# Altium schematic symbol library Board.SchLib: 43 symbols
Pins are listed as number, name and electrical type; pins without a type are passive.

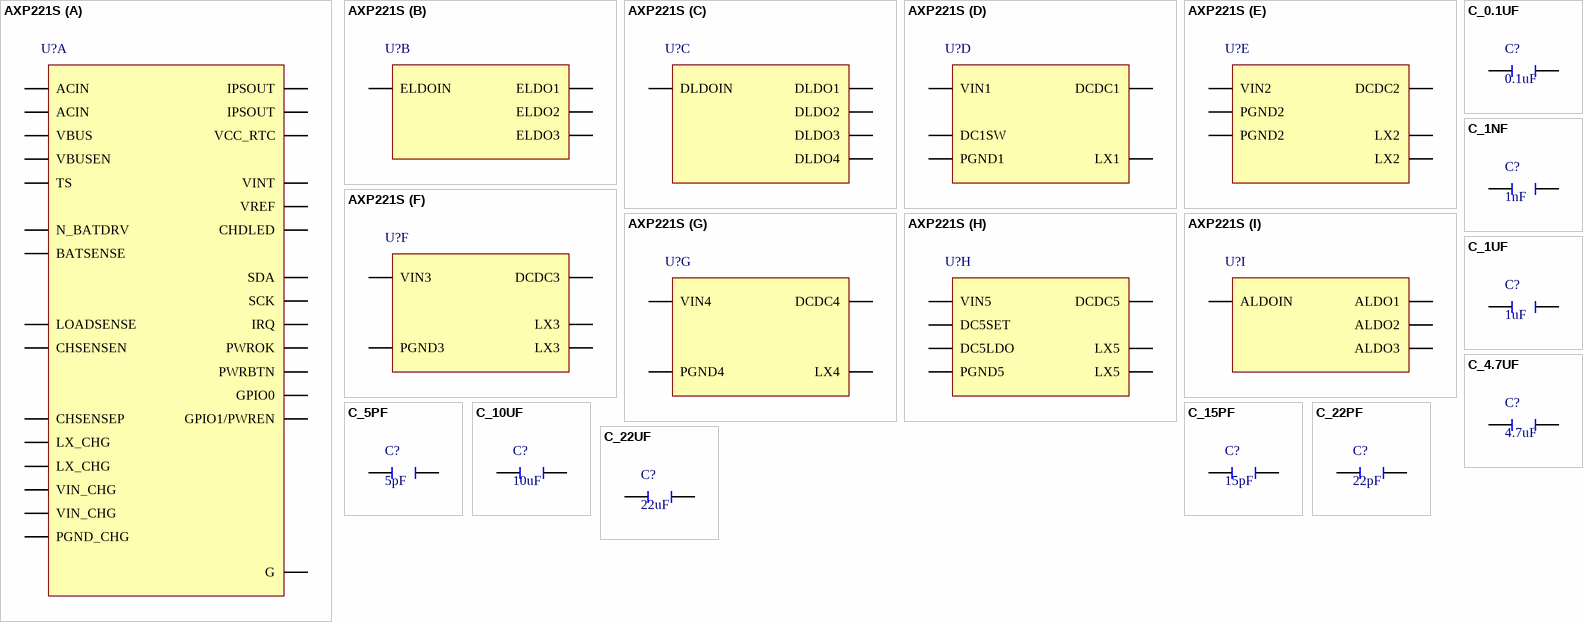
[diagram p0: symbols AXP221S to C_22UF]

## AXP221S
designator U?
footprint AXP221S
part A pins: 11 VBUSEN, 12 PWRBTN, 29 IRQ, 30 TS, 31 GPIO1/PWREN, 35 VREF, 37 GPIO0, 43 PWROK, 44 SCK, 45 SDA, 46 VCC_RTC, 47 VINT, 48 VBUS, 49 BATSENSE, 50 LOADSENSE, 51 N_BATDRV, 52 CHDLED, 53 IPSOUT, 54 IPSOUT, 55 ACIN, 56 ACIN, 57 CHSENSEP, 58 CHSENSEN, 59 PGND_CHG, 60 LX_CHG, 61 LX_CHG, 62 VIN_CHG, 63 VIN_CHG, 69 G
part B pins: 1 ELDOIN, 2 ELDO2, 3 ELDO3, 68 ELDO1
part C pins: 16 DLDO3, 17 DLDO2, 18 DLDOIN, 19 DLDO1, 20 DLDO4
part D pins: 13 VIN1, 14 LX1, 15 PGND1, 21 DCDC1, 22 DC1SW
part E pins: 23 VIN2, 24 LX2, 25 LX2, 26 PGND2, 27 PGND2, 28 DCDC2
part F pins: 38 DCDC3, 39 VIN3, 40 LX3, 41 LX3, 42 PGND3
part G pins: 64 VIN4, 65 LX4, 66 PGND4, 67 DCDC4
part H pins: 4 DC5LDO, 5 DCDC5, 6 PGND5, 7 LX5, 8 LX5, 9 VIN5, 10 DC5SET
part I pins: 32 ALDO1, 33 ALDOIN, 34 ALDO2, 36 ALDO3

## C_0.1UF
designator C?, comment 0.1uF
footprint C0402
footprint C0603
footprint C0805
pins: 1 17, 2 18

## C_1NF
designator C?, comment 1nF
footprint C0402
footprint C0603
footprint C0805
pins: 1 17, 2 18

## C_1UF
designator C?, comment 1uF
footprint C0402
footprint C0603
footprint C0805
pins: 1 17, 2 18

## C_4.7UF
designator C?, comment 4.7uF
footprint C0402
footprint C0603
footprint C0805
pins: 1 17, 2 18

## C_5PF
designator C?, comment 5pF
footprint C0402
footprint C0603
footprint C0805
pins: 1 17, 2 18

## C_10UF
designator C?, comment 10uF
footprint C0402
footprint C0603
footprint C0805
pins: 1 17, 2 18

## C_15PF
designator C?, comment 15pF
footprint C0402
footprint C0603
footprint C0805
pins: 1 17, 2 18

## C_22PF
designator C?, comment 22pF
footprint C0402
footprint C0603
footprint C0805
pins: 1 17, 2 18

## C_22UF
designator C?, comment 22uF
footprint C0402
footprint C0603
footprint C0805
pins: 1 17, 2 18

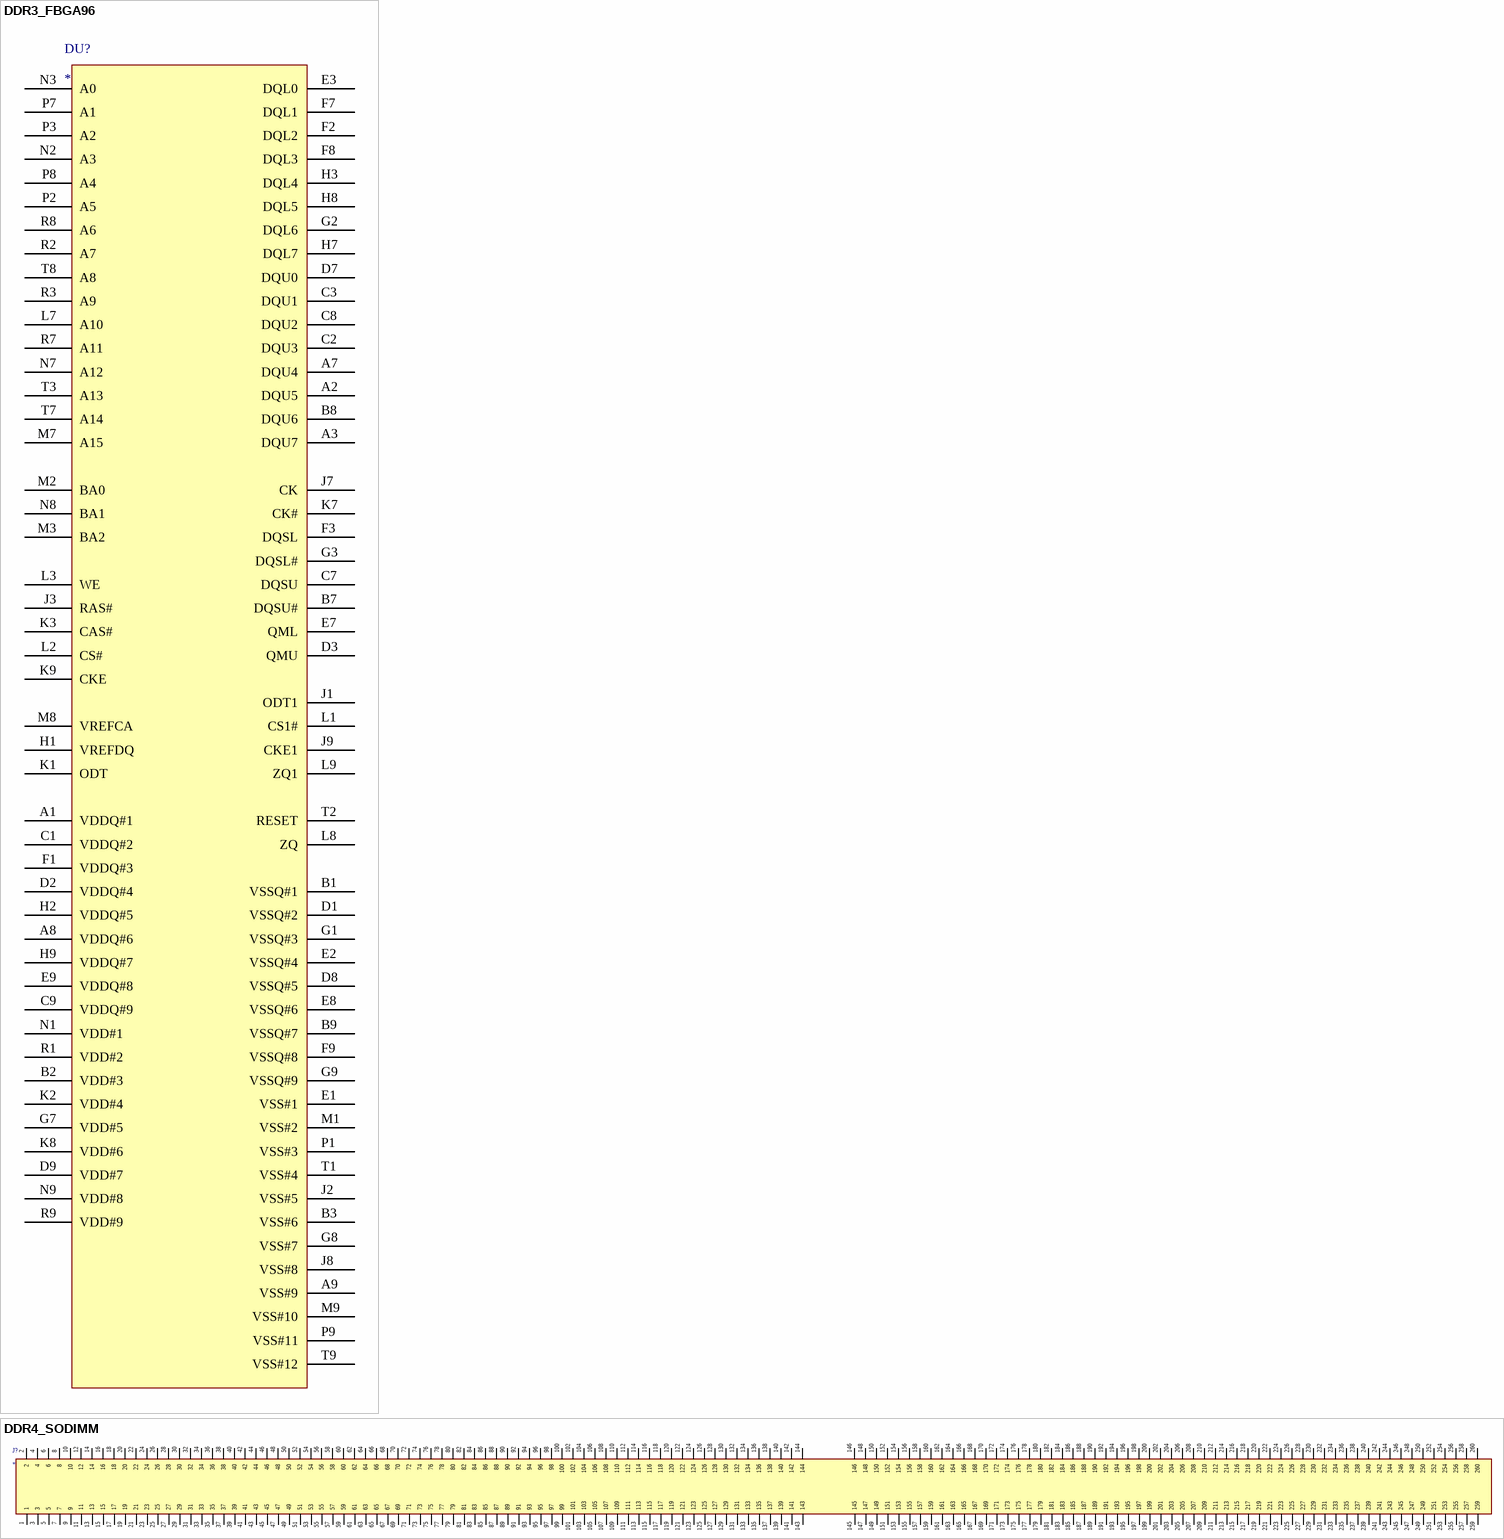
[diagram p1: symbols DDR3_FBGA96 to DDR4_SODIMM]

## DDR3_FBGA96
designator DU?
footprint DDR3_FBGA96
pins: A1 VDDQ#1, A2 DQU5, A3 DQU7, A7 DQU4, A8 VDDQ#6, A9 VSS#9, B1 VSSQ#1, B2 VDD#3, B3 VSS#6, B7 DQSU#, B8 DQU6, B9 VSSQ#7, C1 VDDQ#2, C2 DQU3, C3 DQU1, C7 DQSU, C8 DQU2, C9 VDDQ#9, D1 VSSQ#2, D2 VDDQ#4, D3 QMU, D7 DQU0, D8 VSSQ#5, D9 VDD#7, E1 VSS#1, E2 VSSQ#4, E3 DQL0, E7 QML, E8 VSSQ#6, E9 VDDQ#8, F1 VDDQ#3, F2 DQL2, F3 DQSL, F7 DQL1, F8 DQL3, F9 VSSQ#8, G1 VSSQ#3, G2 DQL6, G3 DQSL#, G7 VDD#5, G8 VSS#7, G9 VSSQ#9, H1 VREFDQ, H2 VDDQ#5, H3 DQL4, H7 DQL7, H8 DQL5, H9 VDDQ#7, J1 ODT1, J2 VSS#5, J3 RAS#, J7 CK, J8 VSS#8, J9 CKE1, K1 ODT, K2 VDD#4, K3 CAS#, K7 CK#, K8 VDD#6, K9 CKE, L1 CS1#, L2 CS#, L3 WE, L7 A10, L8 ZQ, L9 ZQ1, M1 VSS#2, M2 BA0, M3 BA2, M7 A15, M8 VREFCA, M9 VSS#10, N1 VDD#1, N2 A3, N3 A0, N7 A12, N8 BA1, N9 VDD#8, P1 VSS#3, P2 A5, P3 A2, P7 A1, P8 A4, P9 VSS#11, R1 VDD#2, R2 A7, R3 A9, R7 A11, R8 A6, R9 VDD#9, T1 VSS#4, T2 RESET, T3 A13, T7 A14, T8 A8, T9 VSS#12

## DDR4_SODIMM
designator J?
footprint DDR4_SODIMM
pins: 1, 2, 3, 4, 5, 6, 7, 8, 9, 10, 11, 12, 13, 14, 15, 16, 17, 18, 19, 20, 21, 22, 23, 24, 25, 26, 27, 28, 29, 30, 31, 32, 33, 34, 35, 36, 37, 38, 39, 40, 41, 42, 43, 44, 45, 46, 47, 48, 49, 50, 51, 52, 53, 54, 55, 56, 57, 58, 59, 60, 61, 62, 63, 64, 65, 66, 67, 68, 69, 70, 71, 72, 73, 74, 75, 76, 77, 78, 79, 80, 81, 82, 83, 84, 85, 86, 87, 88, 89, 90, 91, 92, 93, 94, 95, 96, 97, 98, 99, 100, 101, 102, 103, 104, 105, 106, 107, 108, 109, 110, 111, 112, 113, 114, 115, 116, 117, 118, 119, 120, 121, 122, 123, 124, 125, 126, 127, 128, 129, 130, 131, 132, 133, 134, 135, 136, 137, 138, 139, 140, 141, 142, 143, 144, 145, 146, 147, 148, 149, 150, 151, 152, 153, 154, 155, 156, 157, 158, 159, 160, 161, 162, 163, 164, 165, 166, 167, 168, 169, 170, 171, 172, 173, 174, 175, 176, 177, 178, 179, 180, 181, 182, 183, 184, 185, 186, 187, 188, 189, 190, 191, 192, 193, 194, 195, 196, 197, 198, 199, 200, 201, 202, 203, 204, 205, 206, 207, 208, 209, 210, 211, 212, 213, 214, 215, 216, 217, 218, 219, 220, 221, 222, 223, 224, 225, 226, 227, 228, 229, 230, 231, 232, 233, 234, 235, 236, 237, 238, 239, 240, 241, 242, 243, 244, 245, 246, 247, 248, 249, 250, 251, 252, 253, 254, 255, 256, 257, 258, 259, 260

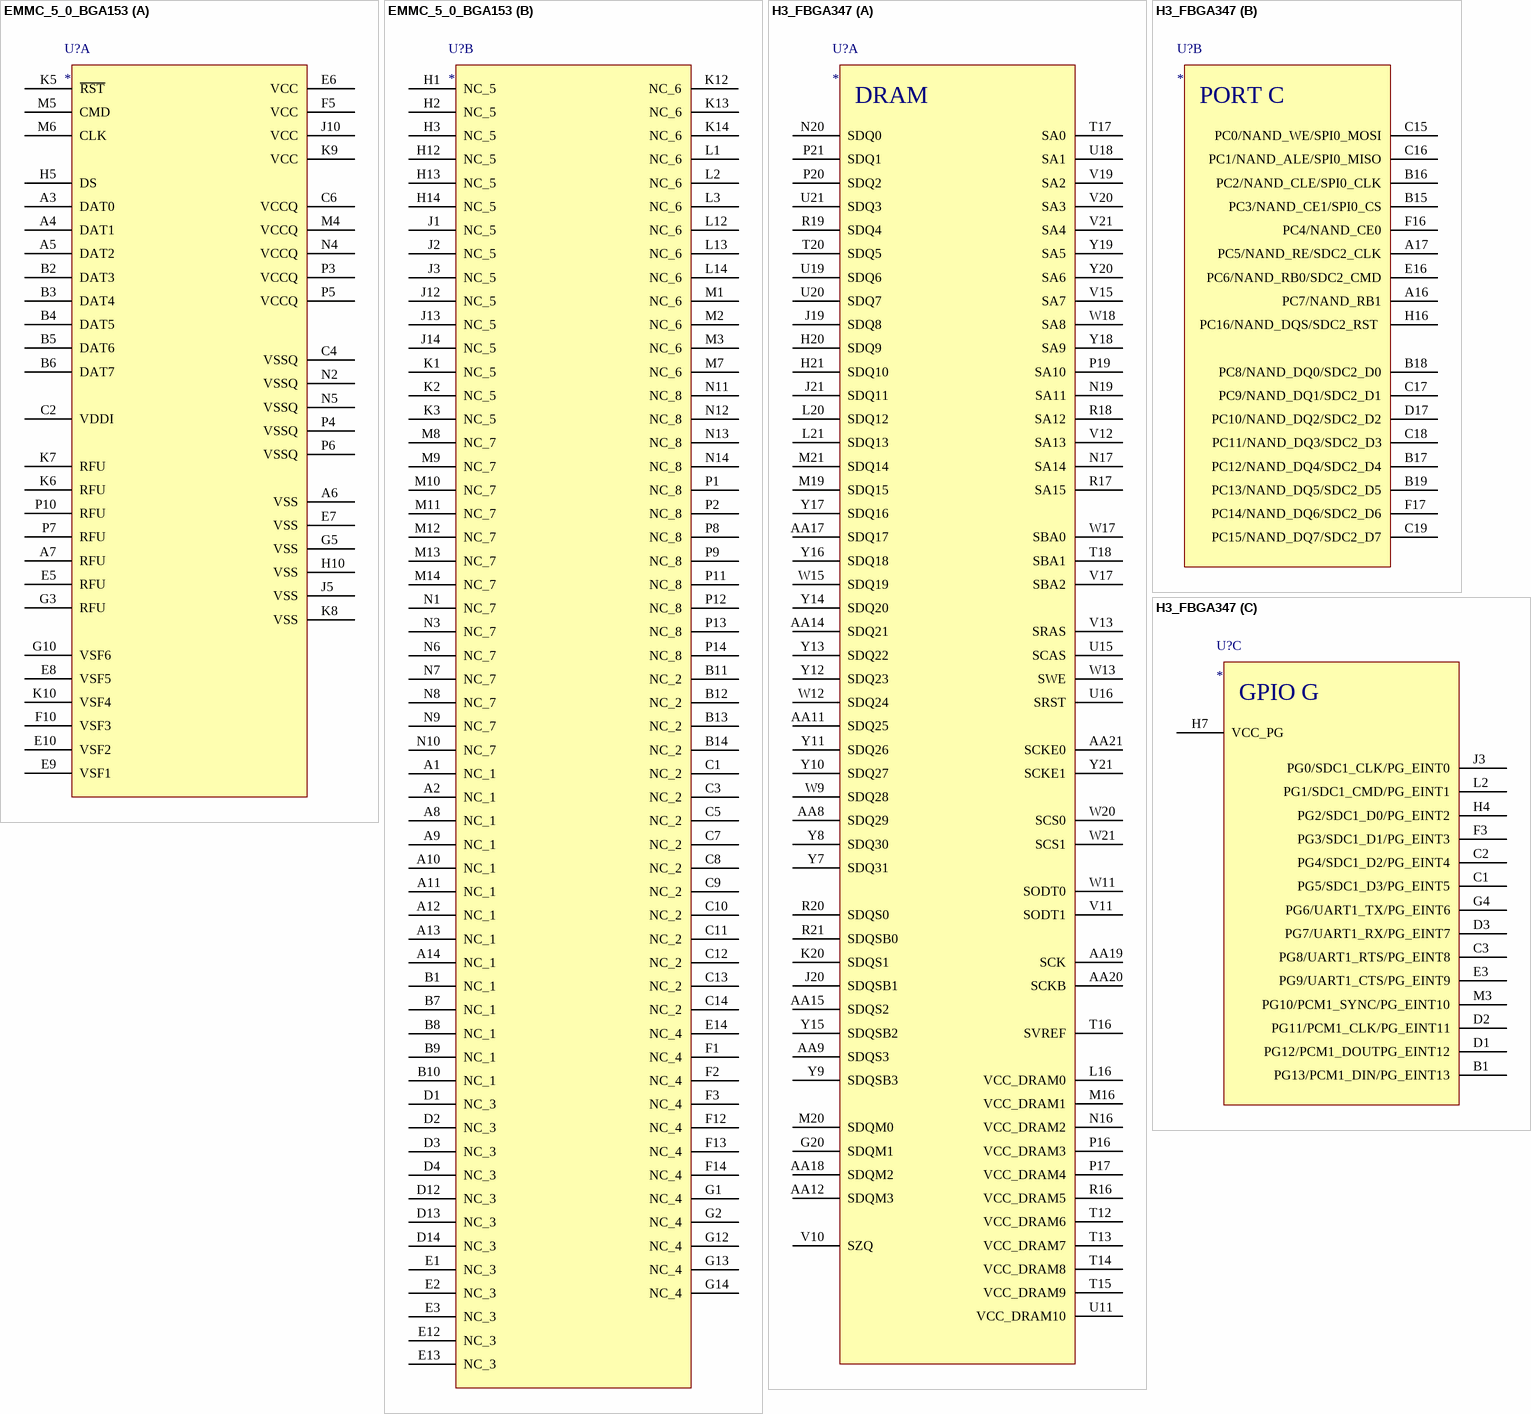
[diagram p2: symbols EMMC_5_0_BGA153 to H3_FBGA347]

## EMMC_5_0_BGA153
designator U?
footprint EMMC_BGA153
part A pins: A3 DAT0, A4 DAT1, A5 DAT2, A6 VSS, A7 RFU, B2 DAT3, B3 DAT4, B4 DAT5, B5 DAT6, B6 DAT7, C2 VDDI, C4 VSSQ, C6 VCCQ, E5 RFU, E6 VCC, E7 VSS, E8 VSF5, E9 VSF1, E10 VSF2, F5 VCC, F10 VSF3, G3 RFU, G5 VSS, G10 VSF6, H5 DS, H10 VSS, J5 VSS, J10 VCC, K5 ~{RST}, K6 RFU, K7 RFU, K8 VSS, K9 VCC, K10 VSF4, M4 VCCQ, M5 CMD, M6 CLK, N2 VSSQ, N4 VCCQ, N5 VSSQ, P3 VCCQ, P4 VSSQ, P5 VCCQ, P6 VSSQ, P7 RFU, P10 RFU
part B pins: A1 NC_1, A2 NC_1, A8 NC_1, A9 NC_1, A10 NC_1, A11 NC_1, A12 NC_1, A13 NC_1, A14 NC_1, B1 NC_1, B7 NC_1, B8 NC_1, B9 NC_1, B10 NC_1, B11 NC_2, B12 NC_2, B13 NC_2, B14 NC_2, C1 NC_2, C3 NC_2, C5 NC_2, C7 NC_2, C8 NC_2, C9 NC_2, C10 NC_2, C11 NC_2, C12 NC_2, C13 NC_2, C14 NC_2, D1 NC_3, D2 NC_3, D3 NC_3, D4 NC_3, D12 NC_3, D13 NC_3, D14 NC_3, E1 NC_3, E2 NC_3, E3 NC_3, E12 NC_3, E13 NC_3, E14 NC_4, F1 NC_4, F2 NC_4, F3 NC_4, F12 NC_4, F13 NC_4, F14 NC_4, G1 NC_4, G2 NC_4, G12 NC_4, G13 NC_4, G14 NC_4, H1 NC_5, H2 NC_5, H3 NC_5, H12 NC_5, H13 NC_5, H14 NC_5, J1 NC_5, J2 NC_5, J3 NC_5, J12 NC_5, J13 NC_5, J14 NC_5, K1 NC_5, K2 NC_5, K3 NC_5, K12 NC_6, K13 NC_6, K14 NC_6, L1 NC_6, L2 NC_6, L3 NC_6, L12 NC_6, L13 NC_6, L14 NC_6, M1 NC_6, M2 NC_6, M3 NC_6, M7 NC_6, M8 NC_7, M9 NC_7, M10 NC_7, M11 NC_7, M12 NC_7, M13 NC_7, M14 NC_7, N1 NC_7, N3 NC_7, N6 NC_7, N7 NC_7, N8 NC_7, N9 NC_7, N10 NC_7, N11 NC_8, N12 NC_8, N13 NC_8, N14 NC_8, P1 NC_8, P2 NC_8, P8 NC_8, P9 NC_8, P11 NC_8, P12 NC_8, P13 NC_8, P14 NC_8

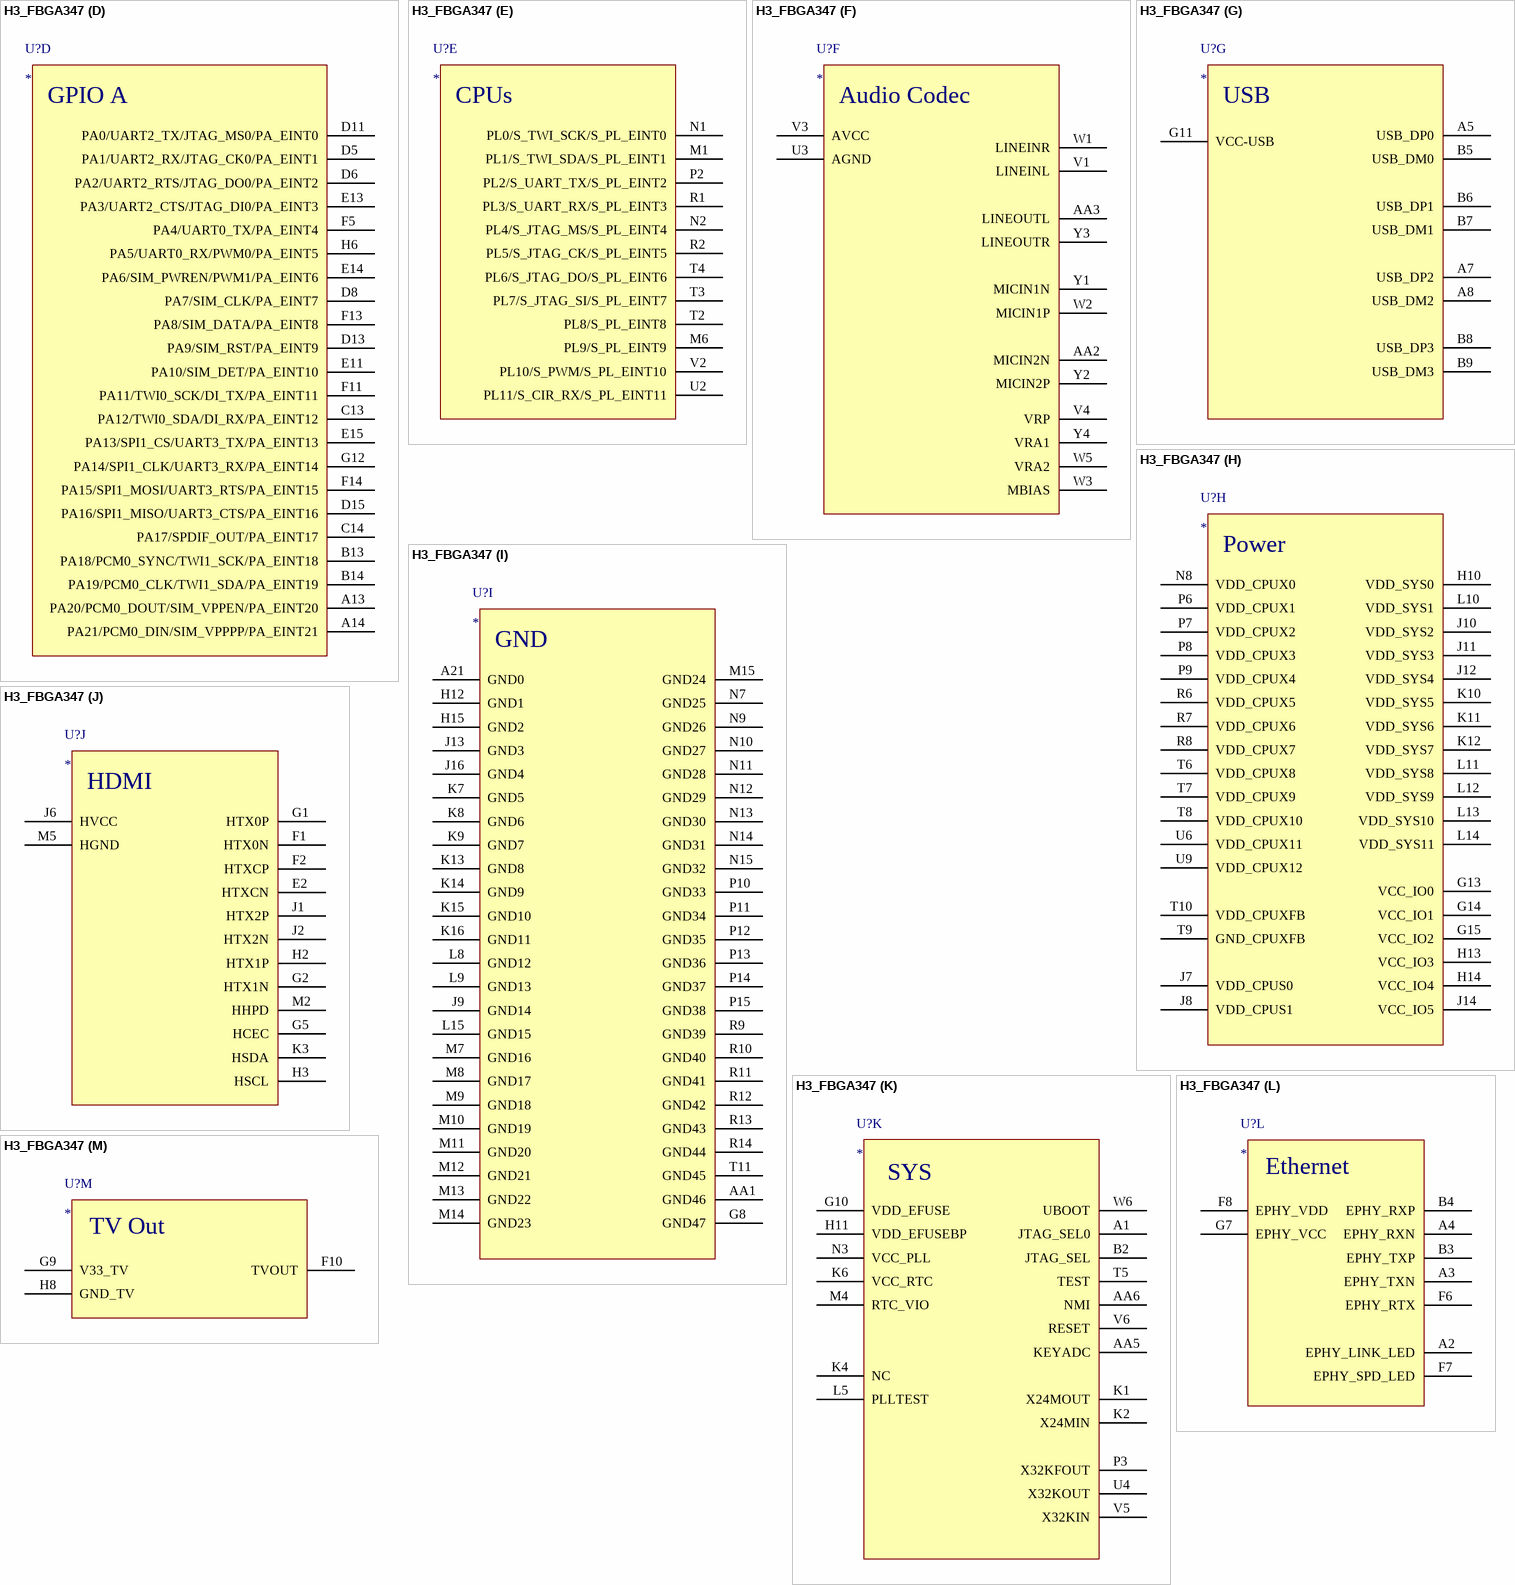
[diagram p3: symbol H3_FBGA347]

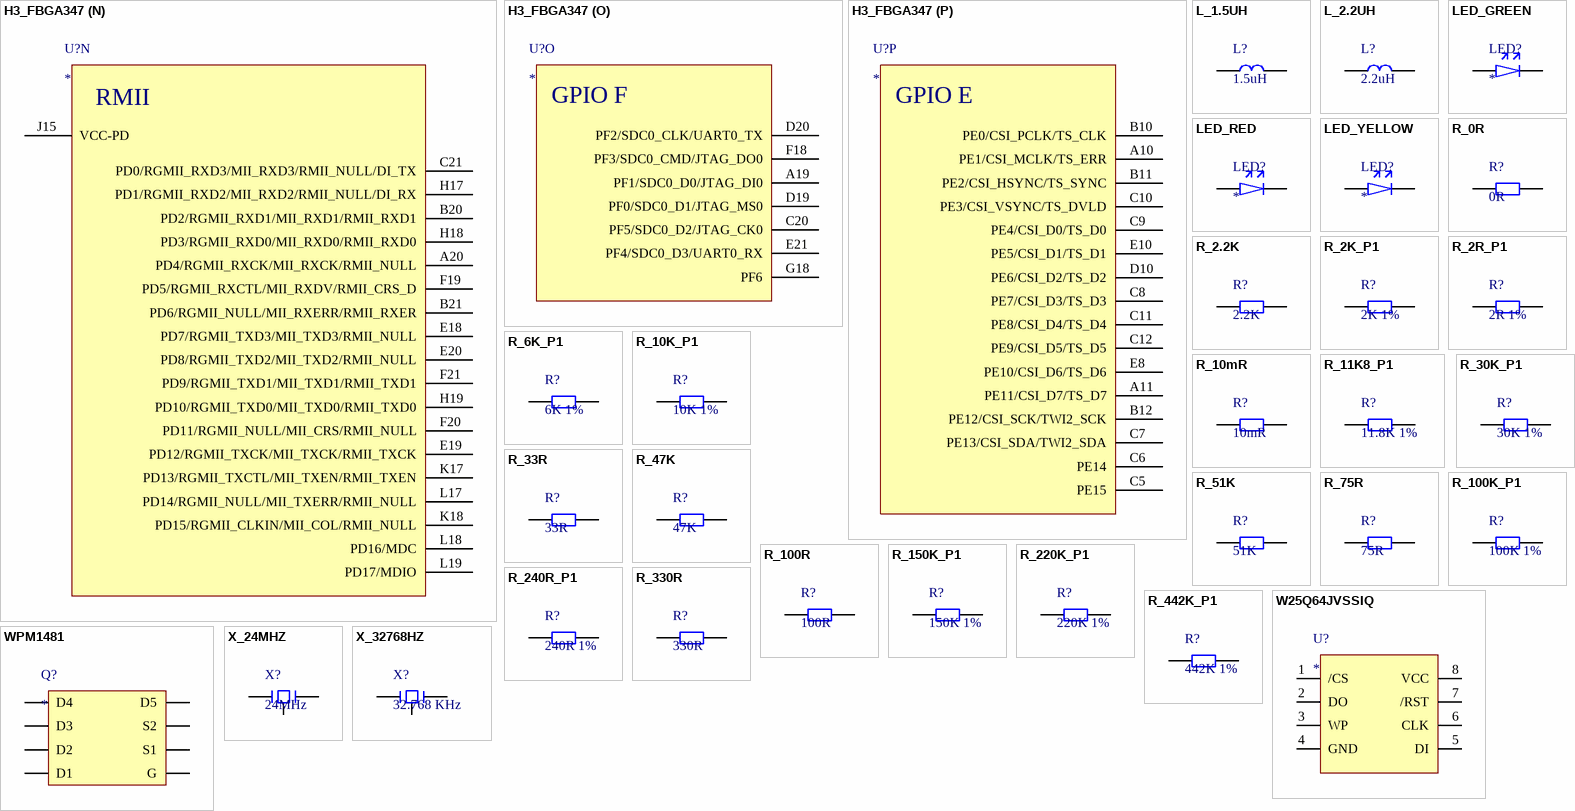
[diagram p4: symbols H3_FBGA347 to X_32768HZ]

## H3_FBGA347
designator U?
footprint H3_FBGA327
part A pins: AA8 SDQ29, AA9 SDQS3, AA11 SDQ25, AA12 SDQM3, AA14 SDQ21, AA15 SDQS2, AA17 SDQ17, AA18 SDQM2, AA19 SCK, AA20 SCKB, AA21 SCKE0, G20 SDQM1, H20 SDQ9, H21 SDQ10, J19 SDQ8, J20 SDQSB1, J21 SDQ11, K20 SDQS1, L16 VCC_DRAM0, L20 SDQ12, L21 SDQ13, M16 VCC_DRAM1, M19 SDQ15, M20 SDQM0, M21 SDQ14, N16 VCC_DRAM2, N17 SA14, N19 SA11, N20 SDQ0, P16 VCC_DRAM3, P17 VCC_DRAM4, P19 SA10, P20 SDQ2, P21 SDQ1, R16 VCC_DRAM5, R17 SA15, R18 SA12, R19 SDQ4, R20 SDQS0, R21 SDQSB0, T12 VCC_DRAM6, T13 VCC_DRAM7, T14 VCC_DRAM8, T15 VCC_DRAM9, T16 SVREF, T17 SA0, T18 SBA1, T20 SDQ5, U11 VCC_DRAM10, U15 SCAS, U16 SRST, U18 SA1, U19 SDQ6, U20 SDQ7, U21 SDQ3, V10 SZQ, V11 SODT1, V12 SA13, V13 SRAS, V15 SA7, V17 SBA2, V19 SA2, V20 SA3, V21 SA4, W9 SDQ28, W11 SODT0, W12 SDQ24, W13 SWE, W15 SDQ19, W17 SBA0, W18 SA8, W20 SCS0, W21 SCS1, Y7 SDQ31, Y8 SDQ30, Y9 SDQSB3, Y10 SDQ27, Y11 SDQ26, Y12 SDQ23, Y13 SDQ22, Y14 SDQ20, Y15 SDQSB2, Y16 SDQ18, Y17 SDQ16, Y18 SA9, Y19 SA5, Y20 SA6, Y21 SCKE1
part B pins: A16 PC7/NAND_RB1, A17 PC5/NAND_RE/SDC2_CLK, B15 PC3/NAND_CE1/SPI0_CS, B16 PC2/NAND_CLE/SPI0_CLK, B17 PC12/NAND_DQ4/SDC2_D4, B18 PC8/NAND_DQ0/SDC2_D0, B19 PC13/NAND_DQ5/SDC2_D5, C15 PC0/NAND_WE/SPI0_MOSI, C16 PC1/NAND_ALE/SPI0_MISO, C17 PC9/NAND_DQ1/SDC2_D1, C18 PC11/NAND_DQ3/SDC2_D3, C19 PC15/NAND_DQ7/SDC2_D7, D17 PC10/NAND_DQ2/SDC2_D2, E16 PC6/NAND_RB0/SDC2_CMD, F16 PC4/NAND_CE0, F17 PC14/NAND_DQ6/SDC2_D6, H16 PC16/NAND_DQS/SDC2_RST 
part C pins: B1 PG13/PCM1_DIN/PG_EINT13, C1 PG5/SDC1_D3/PG_EINT5, C2 PG4/SDC1_D2/PG_EINT4, C3 PG8/UART1_RTS/PG_EINT8, D1 PG12/PCM1_DOUTPG_EINT12, D2 PG11/PCM1_CLK/PG_EINT11, D3 PG7/UART1_RX/PG_EINT7, E3 PG9/UART1_CTS/PG_EINT9, F3 PG3/SDC1_D1/PG_EINT3, G4 PG6/UART1_TX/PG_EINT6, H4 PG2/SDC1_D0/PG_EINT2, H7 VCC_PG, J3 PG0/SDC1_CLK/PG_EINT0, L2 PG1/SDC1_CMD/PG_EINT1, M3 PG10/PCM1_SYNC/PG_EINT10
part D pins: A13 PA20/PCM0_DOUT/SIM_VPPEN/PA_EINT20, A14 PA21/PCM0_DIN/SIM_VPPPP/PA_EINT21, B13 PA18/PCM0_SYNC/TWI1_SCK/PA_EINT18, B14 PA19/PCM0_CLK/TWI1_SDA/PA_EINT19, C13 PA12/TWI0_SDA/DI_RX/PA_EINT12, C14 PA17/SPDIF_OUT/PA_EINT17, D5 PA1/UART2_RX/JTAG_CK0/PA_EINT1, D6 PA2/UART2_RTS/JTAG_DO0/PA_EINT2, D8 PA7/SIM_CLK/PA_EINT7, D11 PA0/UART2_TX/JTAG_MS0/PA_EINT0, D13 PA9/SIM_RST/PA_EINT9, D15 PA16/SPI1_MISO/UART3_CTS/PA_EINT16, E11 PA10/SIM_DET/PA_EINT10, E13 PA3/UART2_CTS/JTAG_DI0/PA_EINT3, E14 PA6/SIM_PWREN/PWM1/PA_EINT6, E15 PA13/SPI1_CS/UART3_TX/PA_EINT13, F5 PA4/UART0_TX/PA_EINT4, F11 PA11/TWI0_SCK/DI_TX/PA_EINT11, F13 PA8/SIM_DATA/PA_EINT8, F14 PA15/SPI1_MOSI/UART3_RTS/PA_EINT15, G12 PA14/SPI1_CLK/UART3_RX/PA_EINT14, H6 PA5/UART0_RX/PWM0/PA_EINT5
part E pins: M1 PL1/S_TWI_SDA/S_PL_EINT1, M6 PL9/S_PL_EINT9, N1 PL0/S_TWI_SCK/S_PL_EINT0, N2 PL4/S_JTAG_MS/S_PL_EINT4, P2 PL2/S_UART_TX/S_PL_EINT2, R1 PL3/S_UART_RX/S_PL_EINT3, R2 PL5/S_JTAG_CK/S_PL_EINT5, T2 PL8/S_PL_EINT8, T3 PL7/S_JTAG_SI/S_PL_EINT7, T4 PL6/S_JTAG_DO/S_PL_EINT6, U2 PL11/S_CIR_RX/S_PL_EINT11, V2 PL10/S_PWM/S_PL_EINT10
part F pins: AA2 MICIN2N, AA3 LINEOUTL, U3 AGND, V1 LINEINL, V3 AVCC, V4 VRP, W1 LINEINR, W2 MICIN1P, W3 MBIAS, W5 VRA2, Y1 MICIN1N, Y2 MICIN2P, Y3 LINEOUTR, Y4 VRA1
part G pins: A5 USB_DP0, A7 USB_DP2, A8 USB_DM2, B5 USB_DM0, B6 USB_DP1, B7 USB_DM1, B8 USB_DP3, B9 USB_DM3, G11 VCC-USB
part H pins: G13 VCC_IO0, G14 VCC_IO1, G15 VCC_IO2, H10 VDD_SYS0, H13 VCC_IO3, H14 VCC_IO4, J7 VDD_CPUS0, J8 VDD_CPUS1, J10 VDD_SYS2, J11 VDD_SYS3, J12 VDD_SYS4, J14 VCC_IO5, K10 VDD_SYS5, K11 VDD_SYS6, K12 VDD_SYS7, L10 VDD_SYS1, L11 VDD_SYS8, L12 VDD_SYS9, L13 VDD_SYS10, L14 VDD_SYS11, N8 VDD_CPUX0, P6 VDD_CPUX1, P7 VDD_CPUX2, P8 VDD_CPUX3, P9 VDD_CPUX4, R6 VDD_CPUX5, R7 VDD_CPUX6, R8 VDD_CPUX7, T6 VDD_CPUX8, T7 VDD_CPUX9, T8 VDD_CPUX10, T9 GND_CPUXFB, T10 VDD_CPUXFB, U6 VDD_CPUX11, U9 VDD_CPUX12
part I pins: A21 GND0, AA1 GND46, G8 GND47, H12 GND1, H15 GND2, J9 GND14, J13 GND3, J16 GND4, K7 GND5, K8 GND6, K9 GND7, K13 GND8, K14 GND9, K15 GND10, K16 GND11, L8 GND12, L9 GND13, L15 GND15, M7 GND16, M8 GND17, M9 GND18, M10 GND19, M11 GND20, M12 GND21, M13 GND22, M14 GND23, M15 GND24, N7 GND25, N9 GND26, N10 GND27, N11 GND28, N12 GND29, N13 GND30, N14 GND31, N15 GND32, P10 GND33, P11 GND34, P12 GND35, P13 GND36, P14 GND37, P15 GND38, R9 GND39, R10 GND40, R11 GND41, R12 GND42, R13 GND43, R14 GND44, T11 GND45
part J pins: E2 HTXCN, F1 HTX0N, F2 HTXCP, G1 HTX0P, G2 HTX1N, G5 HCEC, H2 HTX1P, H3 HSCL, J1 HTX2P, J2 HTX2N, J6 HVCC, K3 HSDA, M2 HHPD, M5 HGND
part K pins: A1 JTAG_SEL0, AA5 KEYADC, AA6 NMI, B2 JTAG_SEL, G10 VDD_EFUSE, H11 VDD_EFUSEBP, K1 X24MOUT, K2 X24MIN, K4 NC, K6 VCC_RTC, L5 PLLTEST, M4 RTC_VIO, N3 VCC_PLL, P3 X32KFOUT, T5 TEST, U4 X32KOUT, V5 X32KIN, V6 RESET, W6 UBOOT
part L pins: A2 EPHY_LINK_LED, A3 EPHY_TXN, A4 EPHY_RXN, B3 EPHY_TXP, B4 EPHY_RXP, F6 EPHY_RTX, F7 EPHY_SPD_LED, F8 EPHY_VDD, G7 EPHY_VCC
part M pins: F10 TVOUT, G9 V33_TV, H8 GND_TV
part N pins: A20 PD4/RGMII_RXCK/MII_RXCK/RMII_NULL, B20 PD2/RGMII_RXD1/MII_RXD1/RMII_RXD1, B21 PD6/RGMII_NULL/MII_RXERR/RMII_RXER, C21 PD0/RGMII_RXD3/MII_RXD3/RMII_NULL/DI_TX, E18 PD7/RGMII_TXD3/MII_TXD3/RMII_NULL, E19 PD12/RGMII_TXCK/MII_TXCK/RMII_TXCK, E20 PD8/RGMII_TXD2/MII_TXD2/RMII_NULL, F19 PD5/RGMII_RXCTL/MII_RXDV/RMII_CRS_D, F20 PD11/RGMII_NULL/MII_CRS/RMII_NULL, F21 PD9/RGMII_TXD1/MII_TXD1/RMII_TXD1, H17 PD1/RGMII_RXD2/MII_RXD2/RMII_NULL/DI_RX, H18 PD3/RGMII_RXD0/MII_RXD0/RMII_RXD0, H19 PD10/RGMII_TXD0/MII_TXD0/RMII_TXD0, J15 VCC-PD, K17 PD13/RGMII_TXCTL/MII_TXEN/RMII_TXEN, K18 PD15/RGMII_CLKIN/MII_COL/RMII_NULL, L17 PD14/RGMII_NULL/MII_TXERR/RMII_NULL, L18 PD16/MDC, L19 PD17/MDIO
part O pins: A19 PF1/SDC0_D0/JTAG_DI0, C20 PF5/SDC0_D2/JTAG_CK0, D19 PF0/SDC0_D1/JTAG_MS0, D20 PF2/SDC0_CLK/UART0_TX, E21 PF4/SDC0_D3/UART0_RX, F18 PF3/SDC0_CMD/JTAG_DO0, G18 PF6
part P pins: A10 PE1/CSI_MCLK/TS_ERR, A11 PE11/CSI_D7/TS_D7, B10 PE0/CSI_PCLK/TS_CLK, B11 PE2/CSI_HSYNC/TS_SYNC, B12 PE12/CSI_SCK/TWI2_SCK, C5 PE15, C6 PE14, C7 PE13/CSI_SDA/TWI2_SDA, C8 PE7/CSI_D3/TS_D3, C9 PE4/CSI_D0/TS_D0, C10 PE3/CSI_VSYNC/TS_DVLD, C11 PE8/CSI_D4/TS_D4, C12 PE9/CSI_D5/TS_D5, D10 PE6/CSI_D2/TS_D2, E8 PE10/CSI_D6/TS_D6, E10 PE5/CSI_D1/TS_D1
part A text: DRAM
part B text: PORT C
part C text: GPIO G
part D text: GPIO A
part E text: CPUs
part F text: Audio Codec
part G text: USB
part H text: Power
part I text: GND
part J text: HDMI
part K text: SYS
part L text: Ethernet
part M text: TV Out
part N text: RMII
part O text: GPIO F
part P text: GPIO E

## L_1.5UH
designator L?, comment 1.5uH
footprint L0603
footprint L2520
pins: 1 17, 2 18

## L_2.2UH
designator L?, comment 2.2uH
footprint L0603
footprint L2520
pins: 1 17, 2 18

## LED_GREEN
designator LED?
footprint LED0603_GREEN
pins: 1, 2

## LED_RED
designator LED?
footprint LED0603_RED
pins: 1, 2

## LED_YELLOW
designator LED?
footprint LED0603_YELLOW
pins: 1, 2

## R_0R
designator R?, comment 0R
footprint R0402
footprint R0603
pins: 1 17, 2 18

## R_2.2K
designator R?, comment 2.2K
footprint R0402
footprint R0603
pins: 1 17, 2 18

## R_2K_P1
designator R?, comment 2K 1%
footprint R0402
footprint R0603
pins: 1 17, 2 18

## R_2R_P1
designator R?, comment 2R 1%
footprint R0402
footprint R0603
pins: 1 17, 2 18

## R_6K_P1
designator R?, comment 6K 1%
footprint R0402
footprint R0603
pins: 1 17, 2 18

## R_10K_P1
designator R?, comment 10K 1%
footprint R0402
footprint R0603
pins: 1 17, 2 18

## R_10mR
designator R?, comment 10mR
footprint R0402
footprint R0603
footprint R0805
pins: 1 17, 2 18

## R_11K8_P1
designator R?, comment 11.8K 1%
footprint R0402
footprint R0603
pins: 1 17, 2 18

## R_30K_P1
designator R?, comment 30K 1%
footprint R0402
footprint R0603
pins: 1 17, 2 18

## R_33R
designator R?, comment 33R
footprint R0402
footprint R0603
pins: 1 17, 2 18

## R_47K
designator R?, comment 47K
footprint R0402
footprint R0603
pins: 1 17, 2 18

## R_51K
designator R?, comment 51K
footprint R0402
footprint R0603
pins: 1 17, 2 18

## R_75R
designator R?, comment 75R
footprint R0402
footprint R0603
pins: 1 17, 2 18

## R_100K_P1
designator R?, comment 100K 1%
footprint R0402
footprint R0603
pins: 1 17, 2 18

## R_100R
designator R?, comment 100R
footprint R0402
footprint R0603
pins: 1 17, 2 18

## R_150K_P1
designator R?, comment 150K 1%
footprint R0402
footprint R0603
pins: 1 17, 2 18

## R_220K_P1
designator R?, comment 220K 1%
footprint R0402
footprint R0603
pins: 1 17, 2 18

## R_240R_P1
designator R?, comment 240R 1%
footprint R0402
footprint R0603
pins: 1 17, 2 18

## R_330R
designator R?, comment 330R
footprint R0402
footprint R0603
pins: 1 17, 2 18

## R_442K_P1
designator R?, comment 442K 1%
footprint R0402
footprint R0603
pins: 1 17, 2 18

## W25Q64JVSSIQ
designator U?
footprint W25Q64JVSSIQ
pins: 1 /CS, 2 DO, 3 WP, 4 GND, 5 DI, 6 CLK, 7 /RST, 8 VCC

## WPM1481
designator Q?
footprint WPM1481
pins: 1 D1, 2 D2, 3 G, 4 S1, 5 D3, 6 D4, 7 S2, 8 D5

## X_24MHZ
designator X?, comment 24MHz
footprint SMD3225
pins: 1 IN, 2 OUT, 3 G

## X_32768HZ
designator X?, comment 32.768 KHz
footprint FC_135
pins: 1 IN, 2 OUT, 3 G